# Altium schematic symbol library SnapEDAsch.SchLib: 2 symbols
Pins are listed as number, name and electrical type; pins without a type are passive.

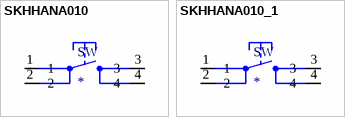
[diagram p0: symbols SKHHANA010 to SKHHANA010_1]

## SKHHANA010
designator SW
Switch Tactile N.O. SPST Round Button PC Pins 0.05A 12VDC 0.98N Thru-Hole Bulk; MF: ALPS; MP: SKHHANA010; Value: *; SnapEDA_Link: https://www.snapeda.com/parts/SKHHANA010/ALPS/view-part/248805/?ref=snap; Price: None; Availability: Unavailable; Package: None
footprint SW_SKHHANA010
pins: 1, 2, 3, 4

## SKHHANA010_1
designator SW
Switch Tactile N.O. SPST Round Button PC Pins 0.05A 12VDC 0.98N Thru-Hole Bulk; MF: ALPS; MP: SKHHANA010; Value: *; SnapEDA_Link: https://www.snapeda.com/parts/SKHHANA010/ALPS/view-part/248805/?ref=snap; Price: None; Availability: Unavailable; Package: None
footprint SW_SKHHANA010
pins: 1, 2, 3, 4